# EAGLE library part SKQU3 (library Joystick - 4 Schalter + 1 Taster)
Name des Bauteiles: -->Tact Schalter (Joystick) Daten:4 Schalterstellungen , 1 x Taster Artikelnummer:#keine feste Artikelnummer vorhanden / Atikel nicht lagermäßig vorhanden! Datenblatt:www.alldatasheet.com __________________________________________ generated by Eagle Description Tool am : 21.01.2014 15:18:34 erstellt von: Hm
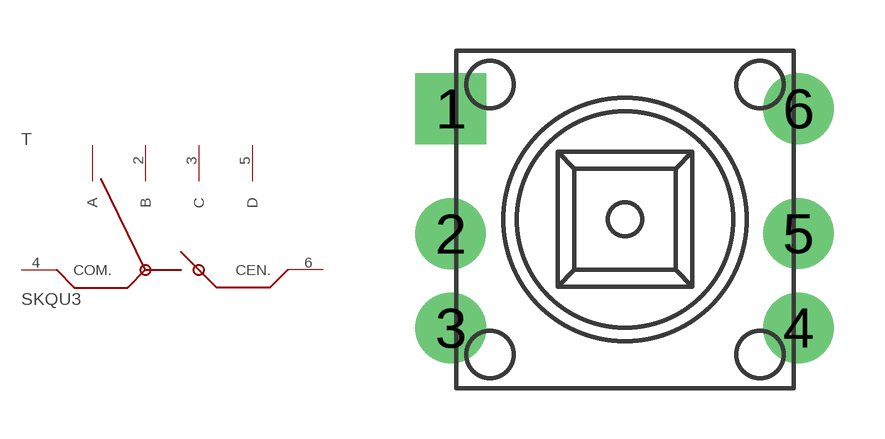
[diagram p0: symbol with the pads of SKQU3; footprint SKQU3]

Designator prefix T

## SKQU3THT  [SKQU3]
1  A
2  B
3  C
4  COM.
5  D
6  CEN.

## Footprint SKQU3 (pad centres in mm)
drill 1.4 square: 1 -5.16,3.28
drill 1.4: 2 -5.17,-0.43; 3 -5.16,-3.22; 4 5.14,-3.22; 5 5.14,-0.42; 6 5.14,3.28